# EAGLE library part IR2110 (library uchile_robotics_eagle_lib)
IR2110 High and low side driver.
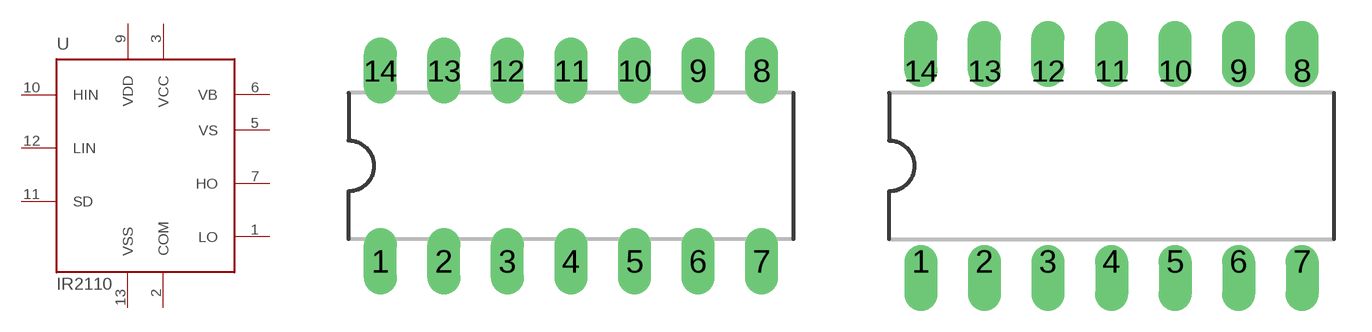
[diagram p8: symbol with the pads of IR2110; footprints IR2110, IR2110-LP]

Designator prefix -

## IR2110  [IR2110]
1  LO  out
2  COM  pwr
3  VCC  pwr
5  VS  pwr
6  VB  pwr
7  HO  out
9  VDD  pwr
10  HIN  in
11  SD  in
12  LIN  in
13  VSS  pwr

## IR2110LP  [IR2110-LP]
Pads as for IR2110

## Footprint IR2110 (pad centres in mm)
IR2110 High and low side driver
drill 0.813 long: 1 -6.35,-3.81; 2 -3.81,-3.81; 3 -1.27,-3.81; 4 1.27,-3.81; 5 3.81,-3.81; 6 6.35,-3.81; 7 8.89,-3.81; 8 8.89,3.81; 9 6.35,3.81; 10 3.81,3.81; 11 1.27,3.81; 12 -1.27,3.81; 13 -3.81,3.81; 14 -6.35,3.81

## Footprint IR2110-LP (pad centres in mm)
drill 0.813 offset: 1 -6.35,-3.81; 2 -3.81,-3.81; 3 -1.27,-3.81; 4 1.27,-3.81; 5 3.81,-3.81; 6 6.35,-3.81; 7 8.89,-3.81; 8 8.89,3.81; 9 6.35,3.81; 10 3.81,3.81; 11 1.27,3.81; 12 -1.27,3.81; 13 -3.81,3.81; 14 -6.35,3.81